# Altium schematic symbol library Button Touch.Schlib: 1 symbol
Pins are listed as number, name and electrical type; pins without a type are passive.

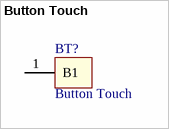
[diagram p0: symbol Button Touch]

## Button Touch
designator BT?  (no BOM)
pins: 1 B1